# Altium integrated library Vishay Vitramon Ceramic Dipped Capacitor.IntLib: 3117 symbols (part 26 of 35)
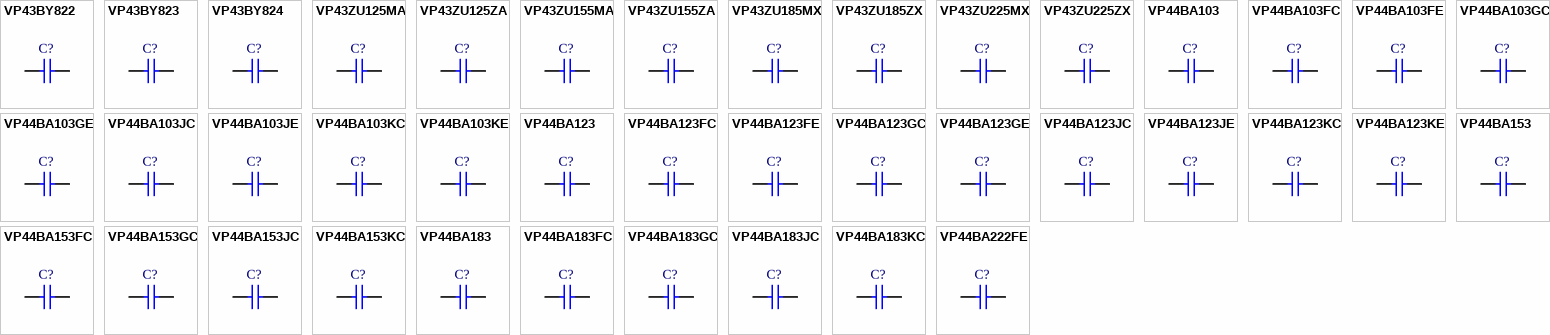
[diagram p102: symbols VP43BY822 to VP44BA222FE]

## VP44BA183GC
designator C?
Dipped Radial Multilayer Ceramic Capacitor COG (NPO): 18nF, 200V; Published: 17-Dec-2003; DatasheetDocument: 7-Jan-2002; PackageDocument: 7-Jan-2002; PackageReference: VP44-5.0; Publisher: Altium Limited; ComponentLink1Description: Manufacturer Link; ComponentLink1URL: http://www.vishay.com/; Value: 18nF
footprint VP44-5.0 (Capacitor, Ceramic, Thru-Hole, Dipped Radial; Body 7.6 x 5 mm (WxT) Pin Spacing 5.08 mm (typ))
simulation model CAP (Capacitor)
signal-integrity model Cap
pins: 1, 2

## VP44BA183JC
designator C?
Dipped Radial Multilayer Ceramic Capacitor COG (NPO): 18nF, 200V; Published: 17-Dec-2003; DatasheetDocument: 7-Jan-2002; PackageDocument: 7-Jan-2002; PackageReference: VP44-5.0; Publisher: Altium Limited; ComponentLink1Description: Manufacturer Link; ComponentLink1URL: http://www.vishay.com/; Value: 18nF
footprint VP44-5.0 (Capacitor, Ceramic, Thru-Hole, Dipped Radial; Body 7.6 x 5 mm (WxT) Pin Spacing 5.08 mm (typ))
simulation model CAP (Capacitor)
signal-integrity model Cap
pins: 1, 2

## VP44BA183KC
designator C?
Dipped Radial Multilayer Ceramic Capacitor COG (NPO): 18nF, 200V; Published: 17-Dec-2003; DatasheetDocument: 7-Jan-2002; PackageDocument: 7-Jan-2002; PackageReference: VP44-5.0; Publisher: Altium Limited; ComponentLink1Description: Manufacturer Link; ComponentLink1URL: http://www.vishay.com/; Value: 18nF
footprint VP44-5.0 (Capacitor, Ceramic, Thru-Hole, Dipped Radial; Body 7.6 x 5 mm (WxT) Pin Spacing 5.08 mm (typ))
simulation model CAP (Capacitor)
signal-integrity model Cap
pins: 1, 2

## VP44BA222FE
designator C?
Dipped Radial Multilayer Ceramic Capacitor COG (NPO): 2200pF, 500V; Value: 2.2nF; Published: 17-Dec-2003; DatasheetDocument: 7-Jan-2002; PackageDocument: 7-Jan-2002; PackageReference: VP44-3.2; Publisher: Altium Limited; ComponentLink1Description: Manufacturer Link; ComponentLink1URL: http://www.vishay.com/
footprint VP44-3.2 (Capacitor, Ceramic, Thru-Hole, Dipped Radial; Body 7.6 x 3.2 mm (WxT) Pin Spacing 5.08 mm (typ))
simulation model CAP (Capacitor)
signal-integrity model Cap
pins: 1, 2

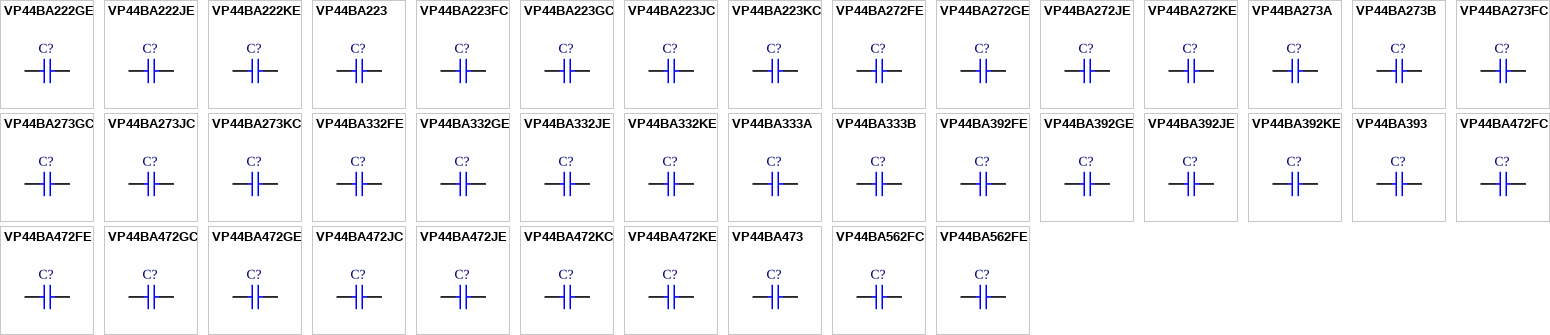
[diagram p56: symbols VP44BA222GE to VP44BA562FE]

## VP44BA222GE
designator C?
Dipped Radial Multilayer Ceramic Capacitor COG (NPO): 2200pF, 500V; Value: 2.2nF; Published: 17-Dec-2003; DatasheetDocument: 7-Jan-2002; PackageDocument: 7-Jan-2002; PackageReference: VP44-3.2; Publisher: Altium Limited; ComponentLink1Description: Manufacturer Link; ComponentLink1URL: http://www.vishay.com/
footprint VP44-3.2 (Capacitor, Ceramic, Thru-Hole, Dipped Radial; Body 7.6 x 3.2 mm (WxT) Pin Spacing 5.08 mm (typ))
simulation model CAP (Capacitor)
signal-integrity model Cap
pins: 1, 2

## VP44BA222JE
designator C?
Dipped Radial Multilayer Ceramic Capacitor COG (NPO): 2200pF, 500V; Value: 2.2nF; Published: 17-Dec-2003; DatasheetDocument: 7-Jan-2002; PackageDocument: 7-Jan-2002; PackageReference: VP44-3.2; Publisher: Altium Limited; ComponentLink1Description: Manufacturer Link; ComponentLink1URL: http://www.vishay.com/
footprint VP44-3.2 (Capacitor, Ceramic, Thru-Hole, Dipped Radial; Body 7.6 x 3.2 mm (WxT) Pin Spacing 5.08 mm (typ))
simulation model CAP (Capacitor)
signal-integrity model Cap
pins: 1, 2

## VP44BA222KE
designator C?
Dipped Radial Multilayer Ceramic Capacitor COG (NPO): 2200pF, 500V; Value: 2.2nF; Published: 17-Dec-2003; DatasheetDocument: 7-Jan-2002; PackageDocument: 7-Jan-2002; PackageReference: VP44-3.2; Publisher: Altium Limited; ComponentLink1Description: Manufacturer Link; ComponentLink1URL: http://www.vishay.com/
footprint VP44-3.2 (Capacitor, Ceramic, Thru-Hole, Dipped Radial; Body 7.6 x 3.2 mm (WxT) Pin Spacing 5.08 mm (typ))
simulation model CAP (Capacitor)
signal-integrity model Cap
pins: 1, 2

## VP44BA223
designator C?
Dipped Radial Multilayer Ceramic Capacitor COG (NPO): 22nF; Note: See Datasheet for other packages & tolerances; Published: 17-Dec-2003; DatasheetDocument: 2-Jan-2002; PackageDocument: 8-Feb-2002; PackageReference: VP44-2.5; Publisher: Altium Limited; ComponentLink1Description: Manufacturer Link; ComponentLink1URL: http://www.vishay.com/; Value: 22nF
footprint VP44-2.5 (Capacitor, Ceramic, Thru-Hole, Dipped Radial; Body 7.6 x 2.5 mm (WxT) Pin Spacing 5.08 mm (typ))
simulation model CAP (Capacitor)
signal-integrity model Cap
pins: 1, 2

## VP44BA223FC
designator C?
Dipped Radial Multilayer Ceramic Capacitor COG (NPO): 22nF, 200V; Published: 17-Dec-2003; DatasheetDocument: 7-Jan-2002; PackageDocument: 7-Jan-2002; PackageReference: VP44-5.0; Publisher: Altium Limited; ComponentLink1Description: Manufacturer Link; ComponentLink1URL: http://www.vishay.com/; Value: 22nF
footprint VP44-5.0 (Capacitor, Ceramic, Thru-Hole, Dipped Radial; Body 7.6 x 5 mm (WxT) Pin Spacing 5.08 mm (typ))
simulation model CAP (Capacitor)
signal-integrity model Cap
pins: 1, 2

## VP44BA223GC
designator C?
Dipped Radial Multilayer Ceramic Capacitor COG (NPO): 22nF, 200V; Published: 17-Dec-2003; DatasheetDocument: 7-Jan-2002; PackageDocument: 7-Jan-2002; PackageReference: VP44-5.0; Publisher: Altium Limited; ComponentLink1Description: Manufacturer Link; ComponentLink1URL: http://www.vishay.com/; Value: 22nF
footprint VP44-5.0 (Capacitor, Ceramic, Thru-Hole, Dipped Radial; Body 7.6 x 5 mm (WxT) Pin Spacing 5.08 mm (typ))
simulation model CAP (Capacitor)
signal-integrity model Cap
pins: 1, 2

## VP44BA223JC
designator C?
Dipped Radial Multilayer Ceramic Capacitor COG (NPO): 22nF, 200V; Published: 17-Dec-2003; DatasheetDocument: 7-Jan-2002; PackageDocument: 7-Jan-2002; PackageReference: VP44-5.0; Publisher: Altium Limited; ComponentLink1Description: Manufacturer Link; ComponentLink1URL: http://www.vishay.com/; Value: 22nF
footprint VP44-5.0 (Capacitor, Ceramic, Thru-Hole, Dipped Radial; Body 7.6 x 5 mm (WxT) Pin Spacing 5.08 mm (typ))
simulation model CAP (Capacitor)
signal-integrity model Cap
pins: 1, 2

## VP44BA223KC
designator C?
Dipped Radial Multilayer Ceramic Capacitor COG (NPO): 22nF, 200V; Published: 17-Dec-2003; DatasheetDocument: 7-Jan-2002; PackageDocument: 7-Jan-2002; PackageReference: VP44-5.0; Publisher: Altium Limited; ComponentLink1Description: Manufacturer Link; ComponentLink1URL: http://www.vishay.com/; Value: 22nF
footprint VP44-5.0 (Capacitor, Ceramic, Thru-Hole, Dipped Radial; Body 7.6 x 5 mm (WxT) Pin Spacing 5.08 mm (typ))
simulation model CAP (Capacitor)
signal-integrity model Cap
pins: 1, 2

## VP44BA272FE
designator C?
Dipped Radial Multilayer Ceramic Capacitor COG (NPO): 2700pF, 500V; Value: 2.7nF; Published: 17-Dec-2003; DatasheetDocument: 7-Jan-2002; PackageDocument: 7-Jan-2002; PackageReference: VP44-3.2; Publisher: Altium Limited; ComponentLink1Description: Manufacturer Link; ComponentLink1URL: http://www.vishay.com/
footprint VP44-3.2 (Capacitor, Ceramic, Thru-Hole, Dipped Radial; Body 7.6 x 3.2 mm (WxT) Pin Spacing 5.08 mm (typ))
simulation model CAP (Capacitor)
signal-integrity model Cap
pins: 1, 2

## VP44BA272GE
designator C?
Dipped Radial Multilayer Ceramic Capacitor COG (NPO): 2700pF, 500V; Value: 2.7nF; Published: 17-Dec-2003; DatasheetDocument: 7-Jan-2002; PackageDocument: 7-Jan-2002; PackageReference: VP44-3.2; Publisher: Altium Limited; ComponentLink1Description: Manufacturer Link; ComponentLink1URL: http://www.vishay.com/
footprint VP44-3.2 (Capacitor, Ceramic, Thru-Hole, Dipped Radial; Body 7.6 x 3.2 mm (WxT) Pin Spacing 5.08 mm (typ))
simulation model CAP (Capacitor)
signal-integrity model Cap
pins: 1, 2

## VP44BA272JE
designator C?
Dipped Radial Multilayer Ceramic Capacitor COG (NPO): 2700pF, 500V; Value: 2.7nF; Published: 17-Dec-2003; DatasheetDocument: 7-Jan-2002; PackageDocument: 7-Jan-2002; PackageReference: VP44-3.2; Publisher: Altium Limited; ComponentLink1Description: Manufacturer Link; ComponentLink1URL: http://www.vishay.com/
footprint VP44-3.2 (Capacitor, Ceramic, Thru-Hole, Dipped Radial; Body 7.6 x 3.2 mm (WxT) Pin Spacing 5.08 mm (typ))
simulation model CAP (Capacitor)
signal-integrity model Cap
pins: 1, 2

## VP44BA272KE
designator C?
Dipped Radial Multilayer Ceramic Capacitor COG (NPO): 2700pF, 500V; Value: 2.7nF; Published: 17-Dec-2003; DatasheetDocument: 7-Jan-2002; PackageDocument: 7-Jan-2002; PackageReference: VP44-3.2; Publisher: Altium Limited; ComponentLink1Description: Manufacturer Link; ComponentLink1URL: http://www.vishay.com/
footprint VP44-3.2 (Capacitor, Ceramic, Thru-Hole, Dipped Radial; Body 7.6 x 3.2 mm (WxT) Pin Spacing 5.08 mm (typ))
simulation model CAP (Capacitor)
signal-integrity model Cap
pins: 1, 2

## VP44BA273A
designator C?
Dipped Radial Multilayer Ceramic Capacitor COG (NPO): 27nF, 50/63V; Note: See Datasheet for other packages & tolerances; Published: 17-Dec-2003; DatasheetDocument: 2-Jan-2002; PackageDocument: 8-Feb-2002; PackageReference: VP44-2.5; Publisher: Altium Limited; ComponentLink1Description: Manufacturer Link; ComponentLink1URL: http://www.vishay.com/; Value: 27nF
footprint VP44-2.5 (Capacitor, Ceramic, Thru-Hole, Dipped Radial; Body 7.6 x 2.5 mm (WxT) Pin Spacing 5.08 mm (typ))
simulation model CAP (Capacitor)
signal-integrity model Cap
pins: 1, 2

## VP44BA273B
designator C?
Dipped Radial Multilayer Ceramic Capacitor COG (NPO): 27nF, 100V; Note: See Datasheet for other packages & tolerances; Published: 17-Dec-2003; DatasheetDocument: 2-Jan-2002; PackageDocument: 8-Feb-2002; PackageReference: VP44-5.0; Publisher: Altium Limited; ComponentLink1Description: Manufacturer Link; ComponentLink1URL: http://www.vishay.com/; Value: 27nF
footprint VP44-5.0 (Capacitor, Ceramic, Thru-Hole, Dipped Radial; Body 7.6 x 5 mm (WxT) Pin Spacing 5.08 mm (typ))
simulation model CAP (Capacitor)
signal-integrity model Cap
pins: 1, 2

## VP44BA273FC
designator C?
Dipped Radial Multilayer Ceramic Capacitor COG (NPO): 27nF, 200V; Published: 17-Dec-2003; DatasheetDocument: 7-Jan-2002; PackageDocument: 7-Jan-2002; PackageReference: VP44-5.0; Publisher: Altium Limited; ComponentLink1Description: Manufacturer Link; ComponentLink1URL: http://www.vishay.com/; Value: 27nF
footprint VP44-5.0 (Capacitor, Ceramic, Thru-Hole, Dipped Radial; Body 7.6 x 5 mm (WxT) Pin Spacing 5.08 mm (typ))
simulation model CAP (Capacitor)
signal-integrity model Cap
pins: 1, 2

## VP44BA273GC
designator C?
Dipped Radial Multilayer Ceramic Capacitor COG (NPO): 27nF, 200V; Published: 17-Dec-2003; DatasheetDocument: 7-Jan-2002; PackageDocument: 7-Jan-2002; PackageReference: VP44-5.0; Publisher: Altium Limited; ComponentLink1Description: Manufacturer Link; ComponentLink1URL: http://www.vishay.com/; Value: 27nF
footprint VP44-5.0 (Capacitor, Ceramic, Thru-Hole, Dipped Radial; Body 7.6 x 5 mm (WxT) Pin Spacing 5.08 mm (typ))
simulation model CAP (Capacitor)
signal-integrity model Cap
pins: 1, 2

## VP44BA273JC
designator C?
Dipped Radial Multilayer Ceramic Capacitor COG (NPO): 27nF, 200V; Published: 17-Dec-2003; DatasheetDocument: 7-Jan-2002; PackageDocument: 7-Jan-2002; PackageReference: VP44-5.0; Publisher: Altium Limited; ComponentLink1Description: Manufacturer Link; ComponentLink1URL: http://www.vishay.com/; Value: 27nF
footprint VP44-5.0 (Capacitor, Ceramic, Thru-Hole, Dipped Radial; Body 7.6 x 5 mm (WxT) Pin Spacing 5.08 mm (typ))
simulation model CAP (Capacitor)
signal-integrity model Cap
pins: 1, 2

## VP44BA273KC
designator C?
Dipped Radial Multilayer Ceramic Capacitor COG (NPO): 27nF, 200V; Published: 17-Dec-2003; DatasheetDocument: 7-Jan-2002; PackageDocument: 7-Jan-2002; PackageReference: VP44-5.0; Publisher: Altium Limited; ComponentLink1Description: Manufacturer Link; ComponentLink1URL: http://www.vishay.com/; Value: 27nF
footprint VP44-5.0 (Capacitor, Ceramic, Thru-Hole, Dipped Radial; Body 7.6 x 5 mm (WxT) Pin Spacing 5.08 mm (typ))
simulation model CAP (Capacitor)
signal-integrity model Cap
pins: 1, 2

## VP44BA332FE
designator C?
Dipped Radial Multilayer Ceramic Capacitor COG (NPO): 3300pF, 500V; Value: 3.3nF; Published: 17-Dec-2003; DatasheetDocument: 7-Jan-2002; PackageDocument: 7-Jan-2002; PackageReference: VP44-3.2; Publisher: Altium Limited; ComponentLink1Description: Manufacturer Link; ComponentLink1URL: http://www.vishay.com/
footprint VP44-3.2 (Capacitor, Ceramic, Thru-Hole, Dipped Radial; Body 7.6 x 3.2 mm (WxT) Pin Spacing 5.08 mm (typ))
simulation model CAP (Capacitor)
signal-integrity model Cap
pins: 1, 2

## VP44BA332GE
designator C?
Dipped Radial Multilayer Ceramic Capacitor COG (NPO): 3300pF, 500V; Value: 3.3nF; Published: 17-Dec-2003; DatasheetDocument: 7-Jan-2002; PackageDocument: 7-Jan-2002; PackageReference: VP44-3.2; Publisher: Altium Limited; ComponentLink1Description: Manufacturer Link; ComponentLink1URL: http://www.vishay.com/
footprint VP44-3.2 (Capacitor, Ceramic, Thru-Hole, Dipped Radial; Body 7.6 x 3.2 mm (WxT) Pin Spacing 5.08 mm (typ))
simulation model CAP (Capacitor)
signal-integrity model Cap
pins: 1, 2

## VP44BA332JE
designator C?
Dipped Radial Multilayer Ceramic Capacitor COG (NPO): 3300pF, 500V; Value: 3.3nF; Published: 17-Dec-2003; DatasheetDocument: 7-Jan-2002; PackageDocument: 7-Jan-2002; PackageReference: VP44-3.2; Publisher: Altium Limited; ComponentLink1Description: Manufacturer Link; ComponentLink1URL: http://www.vishay.com/
footprint VP44-3.2 (Capacitor, Ceramic, Thru-Hole, Dipped Radial; Body 7.6 x 3.2 mm (WxT) Pin Spacing 5.08 mm (typ))
simulation model CAP (Capacitor)
signal-integrity model Cap
pins: 1, 2

## VP44BA332KE
designator C?
Dipped Radial Multilayer Ceramic Capacitor COG (NPO): 3300pF, 500V; Value: 3.3nF; Published: 17-Dec-2003; DatasheetDocument: 7-Jan-2002; PackageDocument: 7-Jan-2002; PackageReference: VP44-3.2; Publisher: Altium Limited; ComponentLink1Description: Manufacturer Link; ComponentLink1URL: http://www.vishay.com/
footprint VP44-3.2 (Capacitor, Ceramic, Thru-Hole, Dipped Radial; Body 7.6 x 3.2 mm (WxT) Pin Spacing 5.08 mm (typ))
simulation model CAP (Capacitor)
signal-integrity model Cap
pins: 1, 2

## VP44BA333A
designator C?
Dipped Radial Multilayer Ceramic Capacitor COG (NPO): 33nF, 50/63V; Note: See Datasheet for other packages & tolerances; Published: 17-Dec-2003; DatasheetDocument: 2-Jan-2002; PackageDocument: 8-Feb-2002; PackageReference: VP44-2.5; Publisher: Altium Limited; ComponentLink1Description: Manufacturer Link; ComponentLink1URL: http://www.vishay.com/; Value: 33nF
footprint VP44-2.5 (Capacitor, Ceramic, Thru-Hole, Dipped Radial; Body 7.6 x 2.5 mm (WxT) Pin Spacing 5.08 mm (typ))
simulation model CAP (Capacitor)
signal-integrity model Cap
pins: 1, 2

## VP44BA333B
designator C?
Dipped Radial Multilayer Ceramic Capacitor COG (NPO): 33nF, 100V; Note: See Datasheet for other packages & tolerances; Published: 17-Dec-2003; DatasheetDocument: 2-Jan-2002; PackageDocument: 8-Feb-2002; PackageReference: VP44-5.0; Publisher: Altium Limited; ComponentLink1Description: Manufacturer Link; ComponentLink1URL: http://www.vishay.com/; Value: 33nF
footprint VP44-5.0 (Capacitor, Ceramic, Thru-Hole, Dipped Radial; Body 7.6 x 5 mm (WxT) Pin Spacing 5.08 mm (typ))
simulation model CAP (Capacitor)
signal-integrity model Cap
pins: 1, 2

## VP44BA392FE
designator C?
Dipped Radial Multilayer Ceramic Capacitor COG (NPO): 3900pF, 500V; Value: 3.9nF; Published: 17-Dec-2003; DatasheetDocument: 7-Jan-2002; PackageDocument: 7-Jan-2002; PackageReference: VP44-3.2; Publisher: Altium Limited; ComponentLink1Description: Manufacturer Link; ComponentLink1URL: http://www.vishay.com/
footprint VP44-3.2 (Capacitor, Ceramic, Thru-Hole, Dipped Radial; Body 7.6 x 3.2 mm (WxT) Pin Spacing 5.08 mm (typ))
simulation model CAP (Capacitor)
signal-integrity model Cap
pins: 1, 2

## VP44BA392GE
designator C?
Dipped Radial Multilayer Ceramic Capacitor COG (NPO): 3900pF, 500V; Value: 3.9nF; Published: 17-Dec-2003; DatasheetDocument: 7-Jan-2002; PackageDocument: 7-Jan-2002; PackageReference: VP44-3.2; Publisher: Altium Limited; ComponentLink1Description: Manufacturer Link; ComponentLink1URL: http://www.vishay.com/
footprint VP44-3.2 (Capacitor, Ceramic, Thru-Hole, Dipped Radial; Body 7.6 x 3.2 mm (WxT) Pin Spacing 5.08 mm (typ))
simulation model CAP (Capacitor)
signal-integrity model Cap
pins: 1, 2

## VP44BA392JE
designator C?
Dipped Radial Multilayer Ceramic Capacitor COG (NPO): 3900pF, 500V; Value: 3.9nF; Published: 17-Dec-2003; DatasheetDocument: 7-Jan-2002; PackageDocument: 7-Jan-2002; PackageReference: VP44-3.2; Publisher: Altium Limited; ComponentLink1Description: Manufacturer Link; ComponentLink1URL: http://www.vishay.com/
footprint VP44-3.2 (Capacitor, Ceramic, Thru-Hole, Dipped Radial; Body 7.6 x 3.2 mm (WxT) Pin Spacing 5.08 mm (typ))
simulation model CAP (Capacitor)
signal-integrity model Cap
pins: 1, 2

## VP44BA392KE
designator C?
Dipped Radial Multilayer Ceramic Capacitor COG (NPO): 3900pF, 500V; Value: 3.9nF; Published: 17-Dec-2003; DatasheetDocument: 7-Jan-2002; PackageDocument: 7-Jan-2002; PackageReference: VP44-3.2; Publisher: Altium Limited; ComponentLink1Description: Manufacturer Link; ComponentLink1URL: http://www.vishay.com/
footprint VP44-3.2 (Capacitor, Ceramic, Thru-Hole, Dipped Radial; Body 7.6 x 3.2 mm (WxT) Pin Spacing 5.08 mm (typ))
simulation model CAP (Capacitor)
signal-integrity model Cap
pins: 1, 2

## VP44BA393
designator C?
Dipped Radial Multilayer Ceramic Capacitor COG (NPO): 39nF; Note: See Datasheet for other packages & tolerances; Published: 17-Dec-2003; DatasheetDocument: 2-Jan-2002; PackageDocument: 8-Feb-2002; PackageReference: VP44-5.0; Publisher: Altium Limited; ComponentLink1Description: Manufacturer Link; ComponentLink1URL: http://www.vishay.com/; Value: 39nF
footprint VP44-5.0 (Capacitor, Ceramic, Thru-Hole, Dipped Radial; Body 7.6 x 5 mm (WxT) Pin Spacing 5.08 mm (typ))
simulation model CAP (Capacitor)
signal-integrity model Cap
pins: 1, 2

## VP44BA472FC
designator C?
Dipped Radial Multilayer Ceramic Capacitor COG (NPO): 4700pF, 200V; Value: 4.7nF; Published: 17-Dec-2003; DatasheetDocument: 7-Jan-2002; PackageDocument: 7-Jan-2002; PackageReference: VP44-3.2; Publisher: Altium Limited; ComponentLink1Description: Manufacturer Link; ComponentLink1URL: http://www.vishay.com/
footprint VP44-3.2 (Capacitor, Ceramic, Thru-Hole, Dipped Radial; Body 7.6 x 3.2 mm (WxT) Pin Spacing 5.08 mm (typ))
simulation model CAP (Capacitor)
signal-integrity model Cap
pins: 1, 2

## VP44BA472FE
designator C?
Dipped Radial Multilayer Ceramic Capacitor COG (NPO): 4700pF, 500V; Value: 4.7nF; Published: 17-Dec-2003; DatasheetDocument: 7-Jan-2002; PackageDocument: 7-Jan-2002; PackageReference: VP44-3.2; Publisher: Altium Limited; ComponentLink1Description: Manufacturer Link; ComponentLink1URL: http://www.vishay.com/
footprint VP44-3.2 (Capacitor, Ceramic, Thru-Hole, Dipped Radial; Body 7.6 x 3.2 mm (WxT) Pin Spacing 5.08 mm (typ))
simulation model CAP (Capacitor)
signal-integrity model Cap
pins: 1, 2

## VP44BA472GC
designator C?
Dipped Radial Multilayer Ceramic Capacitor COG (NPO): 4700pF, 200V; Value: 4.7nF; Published: 17-Dec-2003; DatasheetDocument: 7-Jan-2002; PackageDocument: 7-Jan-2002; PackageReference: VP44-3.2; Publisher: Altium Limited; ComponentLink1Description: Manufacturer Link; ComponentLink1URL: http://www.vishay.com/
footprint VP44-3.2 (Capacitor, Ceramic, Thru-Hole, Dipped Radial; Body 7.6 x 3.2 mm (WxT) Pin Spacing 5.08 mm (typ))
simulation model CAP (Capacitor)
signal-integrity model Cap
pins: 1, 2

## VP44BA472GE
designator C?
Dipped Radial Multilayer Ceramic Capacitor COG (NPO): 4700pF, 500V; Value: 4.7nF; Published: 17-Dec-2003; DatasheetDocument: 7-Jan-2002; PackageDocument: 7-Jan-2002; PackageReference: VP44-3.2; Publisher: Altium Limited; ComponentLink1Description: Manufacturer Link; ComponentLink1URL: http://www.vishay.com/
footprint VP44-3.2 (Capacitor, Ceramic, Thru-Hole, Dipped Radial; Body 7.6 x 3.2 mm (WxT) Pin Spacing 5.08 mm (typ))
simulation model CAP (Capacitor)
signal-integrity model Cap
pins: 1, 2

## VP44BA472JC
designator C?
Dipped Radial Multilayer Ceramic Capacitor COG (NPO): 4700pF, 200V; Value: 4.7nF; Published: 17-Dec-2003; DatasheetDocument: 7-Jan-2002; PackageDocument: 7-Jan-2002; PackageReference: VP44-3.2; Publisher: Altium Limited; ComponentLink1Description: Manufacturer Link; ComponentLink1URL: http://www.vishay.com/
footprint VP44-3.2 (Capacitor, Ceramic, Thru-Hole, Dipped Radial; Body 7.6 x 3.2 mm (WxT) Pin Spacing 5.08 mm (typ))
simulation model CAP (Capacitor)
signal-integrity model Cap
pins: 1, 2

## VP44BA472JE
designator C?
Dipped Radial Multilayer Ceramic Capacitor COG (NPO): 4700pF, 500V; Value: 4.7nF; Published: 17-Dec-2003; DatasheetDocument: 7-Jan-2002; PackageDocument: 7-Jan-2002; PackageReference: VP44-3.2; Publisher: Altium Limited; ComponentLink1Description: Manufacturer Link; ComponentLink1URL: http://www.vishay.com/
footprint VP44-3.2 (Capacitor, Ceramic, Thru-Hole, Dipped Radial; Body 7.6 x 3.2 mm (WxT) Pin Spacing 5.08 mm (typ))
simulation model CAP (Capacitor)
signal-integrity model Cap
pins: 1, 2

## VP44BA472KC
designator C?
Dipped Radial Multilayer Ceramic Capacitor COG (NPO): 4700pF, 200V; Value: 4.7nF; Published: 17-Dec-2003; DatasheetDocument: 7-Jan-2002; PackageDocument: 7-Jan-2002; PackageReference: VP44-3.2; Publisher: Altium Limited; ComponentLink1Description: Manufacturer Link; ComponentLink1URL: http://www.vishay.com/
footprint VP44-3.2 (Capacitor, Ceramic, Thru-Hole, Dipped Radial; Body 7.6 x 3.2 mm (WxT) Pin Spacing 5.08 mm (typ))
simulation model CAP (Capacitor)
signal-integrity model Cap
pins: 1, 2

## VP44BA472KE
designator C?
Dipped Radial Multilayer Ceramic Capacitor COG (NPO): 4700pF, 500V; Value: 4.7nF; Published: 17-Dec-2003; DatasheetDocument: 7-Jan-2002; PackageDocument: 7-Jan-2002; PackageReference: VP44-3.2; Publisher: Altium Limited; ComponentLink1Description: Manufacturer Link; ComponentLink1URL: http://www.vishay.com/
footprint VP44-3.2 (Capacitor, Ceramic, Thru-Hole, Dipped Radial; Body 7.6 x 3.2 mm (WxT) Pin Spacing 5.08 mm (typ))
simulation model CAP (Capacitor)
signal-integrity model Cap
pins: 1, 2

## VP44BA473
designator C?
Dipped Radial Multilayer Ceramic Capacitor COG (NPO): 47nF; Note: See Datasheet for other packages & tolerances; Published: 17-Dec-2003; DatasheetDocument: 2-Jan-2002; PackageDocument: 8-Feb-2002; PackageReference: VP44-5.0; Publisher: Altium Limited; ComponentLink1Description: Manufacturer Link; ComponentLink1URL: http://www.vishay.com/; Value: 47nF
footprint VP44-5.0 (Capacitor, Ceramic, Thru-Hole, Dipped Radial; Body 7.6 x 5 mm (WxT) Pin Spacing 5.08 mm (typ))
simulation model CAP (Capacitor)
signal-integrity model Cap
pins: 1, 2

## VP44BA562FC
designator C?
Dipped Radial Multilayer Ceramic Capacitor COG (NPO): 5600pF, 200V; Value: 5.6nF; Published: 17-Dec-2003; DatasheetDocument: 7-Jan-2002; PackageDocument: 7-Jan-2002; PackageReference: VP44-3.2; Publisher: Altium Limited; ComponentLink1Description: Manufacturer Link; ComponentLink1URL: http://www.vishay.com/
footprint VP44-3.2 (Capacitor, Ceramic, Thru-Hole, Dipped Radial; Body 7.6 x 3.2 mm (WxT) Pin Spacing 5.08 mm (typ))
simulation model CAP (Capacitor)
signal-integrity model Cap
pins: 1, 2

## VP44BA562FE
designator C?
Dipped Radial Multilayer Ceramic Capacitor COG (NPO): 5600pF, 500V; Value: 5.6nF; Published: 17-Dec-2003; DatasheetDocument: 7-Jan-2002; PackageDocument: 7-Jan-2002; PackageReference: VP44-3.2; Publisher: Altium Limited; ComponentLink1Description: Manufacturer Link; ComponentLink1URL: http://www.vishay.com/
footprint VP44-3.2 (Capacitor, Ceramic, Thru-Hole, Dipped Radial; Body 7.6 x 3.2 mm (WxT) Pin Spacing 5.08 mm (typ))
simulation model CAP (Capacitor)
signal-integrity model Cap
pins: 1, 2

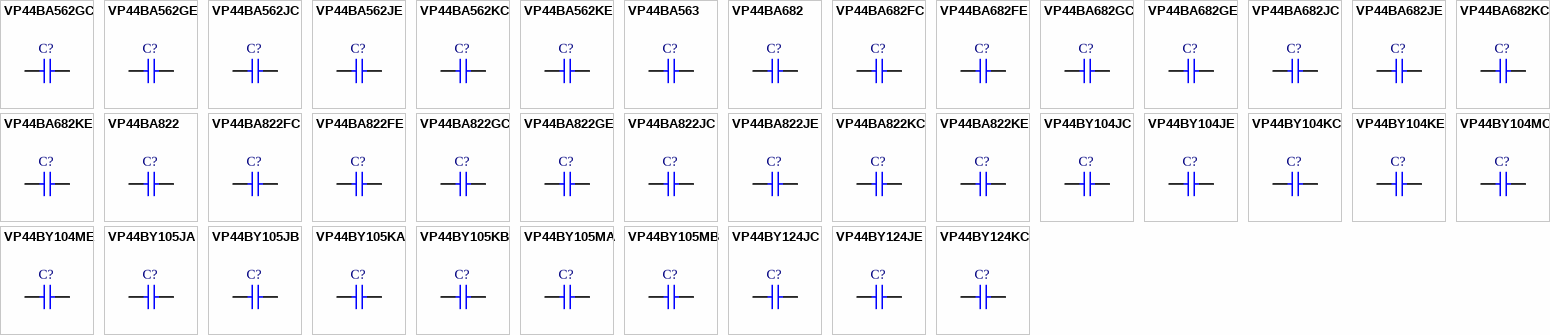
[diagram p57: symbols VP44BA562GC to VP44BY124KC]

## VP44BA562GC
designator C?
Dipped Radial Multilayer Ceramic Capacitor COG (NPO): 5600pF, 200V; Value: 5.6nF; Published: 17-Dec-2003; DatasheetDocument: 7-Jan-2002; PackageDocument: 7-Jan-2002; PackageReference: VP44-3.2; Publisher: Altium Limited; ComponentLink1Description: Manufacturer Link; ComponentLink1URL: http://www.vishay.com/
footprint VP44-3.2 (Capacitor, Ceramic, Thru-Hole, Dipped Radial; Body 7.6 x 3.2 mm (WxT) Pin Spacing 5.08 mm (typ))
simulation model CAP (Capacitor)
signal-integrity model Cap
pins: 1, 2

## VP44BA562GE
designator C?
Dipped Radial Multilayer Ceramic Capacitor COG (NPO): 5600pF, 500V; Value: 5.6nF; Published: 17-Dec-2003; DatasheetDocument: 7-Jan-2002; PackageDocument: 7-Jan-2002; PackageReference: VP44-3.2; Publisher: Altium Limited; ComponentLink1Description: Manufacturer Link; ComponentLink1URL: http://www.vishay.com/
footprint VP44-3.2 (Capacitor, Ceramic, Thru-Hole, Dipped Radial; Body 7.6 x 3.2 mm (WxT) Pin Spacing 5.08 mm (typ))
simulation model CAP (Capacitor)
signal-integrity model Cap
pins: 1, 2

## VP44BA562JC
designator C?
Dipped Radial Multilayer Ceramic Capacitor COG (NPO): 5600pF, 200V; Value: 5.6nF; Published: 17-Dec-2003; DatasheetDocument: 7-Jan-2002; PackageDocument: 7-Jan-2002; PackageReference: VP44-3.2; Publisher: Altium Limited; ComponentLink1Description: Manufacturer Link; ComponentLink1URL: http://www.vishay.com/
footprint VP44-3.2 (Capacitor, Ceramic, Thru-Hole, Dipped Radial; Body 7.6 x 3.2 mm (WxT) Pin Spacing 5.08 mm (typ))
simulation model CAP (Capacitor)
signal-integrity model Cap
pins: 1, 2

## VP44BA562JE
designator C?
Dipped Radial Multilayer Ceramic Capacitor COG (NPO): 5600pF, 500V; Value: 5.6nF; Published: 17-Dec-2003; DatasheetDocument: 7-Jan-2002; PackageDocument: 7-Jan-2002; PackageReference: VP44-3.2; Publisher: Altium Limited; ComponentLink1Description: Manufacturer Link; ComponentLink1URL: http://www.vishay.com/
footprint VP44-3.2 (Capacitor, Ceramic, Thru-Hole, Dipped Radial; Body 7.6 x 3.2 mm (WxT) Pin Spacing 5.08 mm (typ))
simulation model CAP (Capacitor)
signal-integrity model Cap
pins: 1, 2

## VP44BA562KC
designator C?
Dipped Radial Multilayer Ceramic Capacitor COG (NPO): 5600pF, 200V; Value: 5.6nF; Published: 17-Dec-2003; DatasheetDocument: 7-Jan-2002; PackageDocument: 7-Jan-2002; PackageReference: VP44-3.2; Publisher: Altium Limited; ComponentLink1Description: Manufacturer Link; ComponentLink1URL: http://www.vishay.com/
footprint VP44-3.2 (Capacitor, Ceramic, Thru-Hole, Dipped Radial; Body 7.6 x 3.2 mm (WxT) Pin Spacing 5.08 mm (typ))
simulation model CAP (Capacitor)
signal-integrity model Cap
pins: 1, 2

## VP44BA562KE
designator C?
Dipped Radial Multilayer Ceramic Capacitor COG (NPO): 5600pF, 500V; Value: 5.6nF; Published: 17-Dec-2003; DatasheetDocument: 7-Jan-2002; PackageDocument: 7-Jan-2002; PackageReference: VP44-3.2; Publisher: Altium Limited; ComponentLink1Description: Manufacturer Link; ComponentLink1URL: http://www.vishay.com/
footprint VP44-3.2 (Capacitor, Ceramic, Thru-Hole, Dipped Radial; Body 7.6 x 3.2 mm (WxT) Pin Spacing 5.08 mm (typ))
simulation model CAP (Capacitor)
signal-integrity model Cap
pins: 1, 2

## VP44BA563
designator C?
Dipped Radial Multilayer Ceramic Capacitor COG (NPO): 56nF; Note: See Datasheet for other packages & tolerances; Published: 17-Dec-2003; DatasheetDocument: 2-Jan-2002; PackageDocument: 8-Feb-2002; PackageReference: VP44-5.0; Publisher: Altium Limited; ComponentLink1Description: Manufacturer Link; ComponentLink1URL: http://www.vishay.com/; Value: 56nF
footprint VP44-5.0 (Capacitor, Ceramic, Thru-Hole, Dipped Radial; Body 7.6 x 5 mm (WxT) Pin Spacing 5.08 mm (typ))
simulation model CAP (Capacitor)
signal-integrity model Cap
pins: 1, 2

## VP44BA682
designator C?
Dipped Radial Multilayer Ceramic Capacitor COG (NPO): 6800pF; Note: See Datasheet for other packages & tolerances; Value: 6.8nF; Published: 17-Dec-2003; DatasheetDocument: 2-Jan-2002; PackageDocument: 8-Feb-2002; PackageReference: VP44-2.5; Publisher: Altium Limited; ComponentLink1Description: Manufacturer Link; ComponentLink1URL: http://www.vishay.com/
footprint VP44-2.5 (Capacitor, Ceramic, Thru-Hole, Dipped Radial; Body 7.6 x 2.5 mm (WxT) Pin Spacing 5.08 mm (typ))
simulation model CAP (Capacitor)
signal-integrity model Cap
pins: 1, 2

## VP44BA682FC
designator C?
Dipped Radial Multilayer Ceramic Capacitor COG (NPO): 6800pF, 200V; Value: 6.8nF; Published: 17-Dec-2003; DatasheetDocument: 7-Jan-2002; PackageDocument: 7-Jan-2002; PackageReference: VP44-3.2; Publisher: Altium Limited; ComponentLink1Description: Manufacturer Link; ComponentLink1URL: http://www.vishay.com/
footprint VP44-3.2 (Capacitor, Ceramic, Thru-Hole, Dipped Radial; Body 7.6 x 3.2 mm (WxT) Pin Spacing 5.08 mm (typ))
simulation model CAP (Capacitor)
signal-integrity model Cap
pins: 1, 2

## VP44BA682FE
designator C?
Dipped Radial Multilayer Ceramic Capacitor COG (NPO): 6800pF, 500V; Value: 6.8nF; Published: 17-Dec-2003; DatasheetDocument: 7-Jan-2002; PackageDocument: 7-Jan-2002; PackageReference: VP44-5.0; Publisher: Altium Limited; ComponentLink1Description: Manufacturer Link; ComponentLink1URL: http://www.vishay.com/
footprint VP44-5.0 (Capacitor, Ceramic, Thru-Hole, Dipped Radial; Body 7.6 x 5 mm (WxT) Pin Spacing 5.08 mm (typ))
simulation model CAP (Capacitor)
signal-integrity model Cap
pins: 1, 2

## VP44BA682GC
designator C?
Dipped Radial Multilayer Ceramic Capacitor COG (NPO): 6800pF, 200V; Value: 6.8nF; Published: 17-Dec-2003; DatasheetDocument: 7-Jan-2002; PackageDocument: 7-Jan-2002; PackageReference: VP44-3.2; Publisher: Altium Limited; ComponentLink1Description: Manufacturer Link; ComponentLink1URL: http://www.vishay.com/
footprint VP44-3.2 (Capacitor, Ceramic, Thru-Hole, Dipped Radial; Body 7.6 x 3.2 mm (WxT) Pin Spacing 5.08 mm (typ))
simulation model CAP (Capacitor)
signal-integrity model Cap
pins: 1, 2

## VP44BA682GE
designator C?
Dipped Radial Multilayer Ceramic Capacitor COG (NPO): 6800pF, 500V; Value: 6.8nF; Published: 17-Dec-2003; DatasheetDocument: 7-Jan-2002; PackageDocument: 7-Jan-2002; PackageReference: VP44-5.0; Publisher: Altium Limited; ComponentLink1Description: Manufacturer Link; ComponentLink1URL: http://www.vishay.com/
footprint VP44-5.0 (Capacitor, Ceramic, Thru-Hole, Dipped Radial; Body 7.6 x 5 mm (WxT) Pin Spacing 5.08 mm (typ))
simulation model CAP (Capacitor)
signal-integrity model Cap
pins: 1, 2

## VP44BA682JC
designator C?
Dipped Radial Multilayer Ceramic Capacitor COG (NPO): 6800pF, 200V; Value: 6.8nF; Published: 17-Dec-2003; DatasheetDocument: 7-Jan-2002; PackageDocument: 7-Jan-2002; PackageReference: VP44-3.2; Publisher: Altium Limited; ComponentLink1Description: Manufacturer Link; ComponentLink1URL: http://www.vishay.com/
footprint VP44-3.2 (Capacitor, Ceramic, Thru-Hole, Dipped Radial; Body 7.6 x 3.2 mm (WxT) Pin Spacing 5.08 mm (typ))
simulation model CAP (Capacitor)
signal-integrity model Cap
pins: 1, 2

## VP44BA682JE
designator C?
Dipped Radial Multilayer Ceramic Capacitor COG (NPO): 6800pF, 500V; Value: 6.8nF; Published: 17-Dec-2003; DatasheetDocument: 7-Jan-2002; PackageDocument: 7-Jan-2002; PackageReference: VP44-5.0; Publisher: Altium Limited; ComponentLink1Description: Manufacturer Link; ComponentLink1URL: http://www.vishay.com/
footprint VP44-5.0 (Capacitor, Ceramic, Thru-Hole, Dipped Radial; Body 7.6 x 5 mm (WxT) Pin Spacing 5.08 mm (typ))
simulation model CAP (Capacitor)
signal-integrity model Cap
pins: 1, 2

## VP44BA682KC
designator C?
Dipped Radial Multilayer Ceramic Capacitor COG (NPO): 6800pF, 200V; Value: 6.8nF; Published: 17-Dec-2003; DatasheetDocument: 7-Jan-2002; PackageDocument: 7-Jan-2002; PackageReference: VP44-3.2; Publisher: Altium Limited; ComponentLink1Description: Manufacturer Link; ComponentLink1URL: http://www.vishay.com/
footprint VP44-3.2 (Capacitor, Ceramic, Thru-Hole, Dipped Radial; Body 7.6 x 3.2 mm (WxT) Pin Spacing 5.08 mm (typ))
simulation model CAP (Capacitor)
signal-integrity model Cap
pins: 1, 2

## VP44BA682KE
designator C?
Dipped Radial Multilayer Ceramic Capacitor COG (NPO): 6800pF, 500V; Value: 6.8nF; Published: 17-Dec-2003; DatasheetDocument: 7-Jan-2002; PackageDocument: 7-Jan-2002; PackageReference: VP44-5.0; Publisher: Altium Limited; ComponentLink1Description: Manufacturer Link; ComponentLink1URL: http://www.vishay.com/
footprint VP44-5.0 (Capacitor, Ceramic, Thru-Hole, Dipped Radial; Body 7.6 x 5 mm (WxT) Pin Spacing 5.08 mm (typ))
simulation model CAP (Capacitor)
signal-integrity model Cap
pins: 1, 2

## VP44BA822
designator C?
Dipped Radial Multilayer Ceramic Capacitor COG (NPO): 8200pF; Note: See Datasheet for other packages & tolerances; Value: 8.2nF; Published: 17-Dec-2003; DatasheetDocument: 2-Jan-2002; PackageDocument: 8-Feb-2002; PackageReference: VP44-2.5; Publisher: Altium Limited; ComponentLink1Description: Manufacturer Link; ComponentLink1URL: http://www.vishay.com/
footprint VP44-2.5 (Capacitor, Ceramic, Thru-Hole, Dipped Radial; Body 7.6 x 2.5 mm (WxT) Pin Spacing 5.08 mm (typ))
simulation model CAP (Capacitor)
signal-integrity model Cap
pins: 1, 2

## VP44BA822FC
designator C?
Dipped Radial Multilayer Ceramic Capacitor COG (NPO): 8200pF, 200V; Value: 8.2nF; Published: 17-Dec-2003; DatasheetDocument: 7-Jan-2002; PackageDocument: 7-Jan-2002; PackageReference: VP44-3.2; Publisher: Altium Limited; ComponentLink1Description: Manufacturer Link; ComponentLink1URL: http://www.vishay.com/
footprint VP44-3.2 (Capacitor, Ceramic, Thru-Hole, Dipped Radial; Body 7.6 x 3.2 mm (WxT) Pin Spacing 5.08 mm (typ))
simulation model CAP (Capacitor)
signal-integrity model Cap
pins: 1, 2

## VP44BA822FE
designator C?
Dipped Radial Multilayer Ceramic Capacitor COG (NPO): 8200pF, 500V; Value: 8.2nF; Published: 17-Dec-2003; DatasheetDocument: 7-Jan-2002; PackageDocument: 7-Jan-2002; PackageReference: VP44-5.0; Publisher: Altium Limited; ComponentLink1Description: Manufacturer Link; ComponentLink1URL: http://www.vishay.com/
footprint VP44-5.0 (Capacitor, Ceramic, Thru-Hole, Dipped Radial; Body 7.6 x 5 mm (WxT) Pin Spacing 5.08 mm (typ))
simulation model CAP (Capacitor)
signal-integrity model Cap
pins: 1, 2

## VP44BA822GC
designator C?
Dipped Radial Multilayer Ceramic Capacitor COG (NPO): 8200pF, 200V; Value: 8.2nF; Published: 17-Dec-2003; DatasheetDocument: 7-Jan-2002; PackageDocument: 7-Jan-2002; PackageReference: VP44-3.2; Publisher: Altium Limited; ComponentLink1Description: Manufacturer Link; ComponentLink1URL: http://www.vishay.com/
footprint VP44-3.2 (Capacitor, Ceramic, Thru-Hole, Dipped Radial; Body 7.6 x 3.2 mm (WxT) Pin Spacing 5.08 mm (typ))
simulation model CAP (Capacitor)
signal-integrity model Cap
pins: 1, 2

## VP44BA822GE
designator C?
Dipped Radial Multilayer Ceramic Capacitor COG (NPO): 8200pF, 500V; Value: 8.2nF; Published: 17-Dec-2003; DatasheetDocument: 7-Jan-2002; PackageDocument: 7-Jan-2002; PackageReference: VP44-5.0; Publisher: Altium Limited; ComponentLink1Description: Manufacturer Link; ComponentLink1URL: http://www.vishay.com/
footprint VP44-5.0 (Capacitor, Ceramic, Thru-Hole, Dipped Radial; Body 7.6 x 5 mm (WxT) Pin Spacing 5.08 mm (typ))
simulation model CAP (Capacitor)
signal-integrity model Cap
pins: 1, 2

## VP44BA822JC
designator C?
Dipped Radial Multilayer Ceramic Capacitor COG (NPO): 8200pF, 200V; Value: 8.2nF; Published: 17-Dec-2003; DatasheetDocument: 7-Jan-2002; PackageDocument: 7-Jan-2002; PackageReference: VP44-3.2; Publisher: Altium Limited; ComponentLink1Description: Manufacturer Link; ComponentLink1URL: http://www.vishay.com/
footprint VP44-3.2 (Capacitor, Ceramic, Thru-Hole, Dipped Radial; Body 7.6 x 3.2 mm (WxT) Pin Spacing 5.08 mm (typ))
simulation model CAP (Capacitor)
signal-integrity model Cap
pins: 1, 2

## VP44BA822JE
designator C?
Dipped Radial Multilayer Ceramic Capacitor COG (NPO): 8200pF, 500V; Value: 8.2nF; Published: 17-Dec-2003; DatasheetDocument: 7-Jan-2002; PackageDocument: 7-Jan-2002; PackageReference: VP44-5.0; Publisher: Altium Limited; ComponentLink1Description: Manufacturer Link; ComponentLink1URL: http://www.vishay.com/
footprint VP44-5.0 (Capacitor, Ceramic, Thru-Hole, Dipped Radial; Body 7.6 x 5 mm (WxT) Pin Spacing 5.08 mm (typ))
simulation model CAP (Capacitor)
signal-integrity model Cap
pins: 1, 2

## VP44BA822KC
designator C?
Dipped Radial Multilayer Ceramic Capacitor COG (NPO): 8200pF, 200V; Value: 8.2nF; Published: 17-Dec-2003; DatasheetDocument: 7-Jan-2002; PackageDocument: 7-Jan-2002; PackageReference: VP44-3.2; Publisher: Altium Limited; ComponentLink1Description: Manufacturer Link; ComponentLink1URL: http://www.vishay.com/
footprint VP44-3.2 (Capacitor, Ceramic, Thru-Hole, Dipped Radial; Body 7.6 x 3.2 mm (WxT) Pin Spacing 5.08 mm (typ))
simulation model CAP (Capacitor)
signal-integrity model Cap
pins: 1, 2

## VP44BA822KE
designator C?
Dipped Radial Multilayer Ceramic Capacitor COG (NPO): 8200pF, 500V; Value: 8.2nF; Published: 17-Dec-2003; DatasheetDocument: 7-Jan-2002; PackageDocument: 7-Jan-2002; PackageReference: VP44-5.0; Publisher: Altium Limited; ComponentLink1Description: Manufacturer Link; ComponentLink1URL: http://www.vishay.com/
footprint VP44-5.0 (Capacitor, Ceramic, Thru-Hole, Dipped Radial; Body 7.6 x 5 mm (WxT) Pin Spacing 5.08 mm (typ))
simulation model CAP (Capacitor)
signal-integrity model Cap
pins: 1, 2

## VP44BY104JC
designator C?
Dipped Radial Multilayer Ceramic Capacitor X7R: 100nF, 200V; Published: 17-Dec-2003; DatasheetDocument: 2-Jan-2002; PackageDocument: 2-Jan-2002; PackageReference: VP44-3.2; Publisher: Altium Limited; ComponentLink1Description: Manufacturer Link; ComponentLink1URL: http://www.vishay.com/; Value: 100nF
footprint VP44-3.2 (Capacitor, Ceramic, Thru-Hole, Dipped Radial; Body 7.6 x 3.2 mm (WxT) Pin Spacing 5.08 mm (typ))
simulation model CAP (Capacitor)
signal-integrity model Cap
pins: 1, 2

## VP44BY104JE
designator C?
Dipped Radial Multilayer Ceramic Capacitor X7R: 100nF, 500V; Published: 17-Dec-2003; DatasheetDocument: 2-Jan-2002; PackageDocument: 2-Jan-2002; PackageReference: VP44-3.2; Publisher: Altium Limited; ComponentLink1Description: Manufacturer Link; ComponentLink1URL: http://www.vishay.com/; Value: 100nF
footprint VP44-3.2 (Capacitor, Ceramic, Thru-Hole, Dipped Radial; Body 7.6 x 3.2 mm (WxT) Pin Spacing 5.08 mm (typ))
simulation model CAP (Capacitor)
signal-integrity model Cap
pins: 1, 2

## VP44BY104KC
designator C?
Dipped Radial Multilayer Ceramic Capacitor X7R: 100nF, 200V; Published: 17-Dec-2003; DatasheetDocument: 2-Jan-2002; PackageDocument: 2-Jan-2002; PackageReference: VP44-3.2; Publisher: Altium Limited; ComponentLink1Description: Manufacturer Link; ComponentLink1URL: http://www.vishay.com/; Value: 100nF
footprint VP44-3.2 (Capacitor, Ceramic, Thru-Hole, Dipped Radial; Body 7.6 x 3.2 mm (WxT) Pin Spacing 5.08 mm (typ))
simulation model CAP (Capacitor)
signal-integrity model Cap
pins: 1, 2

## VP44BY104KE
designator C?
Dipped Radial Multilayer Ceramic Capacitor X7R: 100nF, 500V; Published: 17-Dec-2003; DatasheetDocument: 2-Jan-2002; PackageDocument: 2-Jan-2002; PackageReference: VP44-3.2; Publisher: Altium Limited; ComponentLink1Description: Manufacturer Link; ComponentLink1URL: http://www.vishay.com/; Value: 100nF
footprint VP44-3.2 (Capacitor, Ceramic, Thru-Hole, Dipped Radial; Body 7.6 x 3.2 mm (WxT) Pin Spacing 5.08 mm (typ))
simulation model CAP (Capacitor)
signal-integrity model Cap
pins: 1, 2

## VP44BY104MC
designator C?
Dipped Radial Multilayer Ceramic Capacitor X7R: 100nF, 200V; Published: 17-Dec-2003; DatasheetDocument: 2-Jan-2002; PackageDocument: 2-Jan-2002; PackageReference: VP44-3.2; Publisher: Altium Limited; ComponentLink1Description: Manufacturer Link; ComponentLink1URL: http://www.vishay.com/; Value: 100nF
footprint VP44-3.2 (Capacitor, Ceramic, Thru-Hole, Dipped Radial; Body 7.6 x 3.2 mm (WxT) Pin Spacing 5.08 mm (typ))
simulation model CAP (Capacitor)
signal-integrity model Cap
pins: 1, 2

## VP44BY104ME
designator C?
Dipped Radial Multilayer Ceramic Capacitor X7R: 100nF, 500V; Published: 17-Dec-2003; DatasheetDocument: 2-Jan-2002; PackageDocument: 2-Jan-2002; PackageReference: VP44-3.2; Publisher: Altium Limited; ComponentLink1Description: Manufacturer Link; ComponentLink1URL: http://www.vishay.com/; Value: 100nF
footprint VP44-3.2 (Capacitor, Ceramic, Thru-Hole, Dipped Radial; Body 7.6 x 3.2 mm (WxT) Pin Spacing 5.08 mm (typ))
simulation model CAP (Capacitor)
signal-integrity model Cap
pins: 1, 2

## VP44BY105JA
designator C?
Dipped Radial Multilayer Ceramic Capacitor X7R: 1uF, 50/63V; Published: 17-Dec-2003; DatasheetDocument: 4-Feb-2002; PackageDocument: 4-Feb-2002; PackageReference: VP44-2.5; Publisher: Altium Limited; ComponentLink1Description: Manufacturer Link; ComponentLink1URL: http://www.vishay.com/; Value: 1uF
footprint VP44-2.5 (Capacitor, Ceramic, Thru-Hole, Dipped Radial; Body 7.6 x 2.5 mm (WxT) Pin Spacing 5.08 mm (typ))
simulation model CAP (Capacitor)
signal-integrity model Cap
pins: 1, 2

## VP44BY105JB
designator C?
Dipped Radial Multilayer Ceramic Capacitor X7R: 1uF, 100V; Published: 17-Dec-2003; DatasheetDocument: 4-Feb-2002; PackageDocument: 4-Feb-2002; PackageReference: VP44-2.5; Publisher: Altium Limited; ComponentLink1Description: Manufacturer Link; ComponentLink1URL: http://www.vishay.com/; Value: 1uF
footprint VP44-2.5 (Capacitor, Ceramic, Thru-Hole, Dipped Radial; Body 7.6 x 2.5 mm (WxT) Pin Spacing 5.08 mm (typ))
simulation model CAP (Capacitor)
signal-integrity model Cap
pins: 1, 2

## VP44BY105KA
designator C?
Dipped Radial Multilayer Ceramic Capacitor X7R: 1uF, 50/63V; Published: 17-Dec-2003; DatasheetDocument: 4-Feb-2002; PackageDocument: 4-Feb-2002; PackageReference: VP44-2.5; Publisher: Altium Limited; ComponentLink1Description: Manufacturer Link; ComponentLink1URL: http://www.vishay.com/; Value: 1uF
footprint VP44-2.5 (Capacitor, Ceramic, Thru-Hole, Dipped Radial; Body 7.6 x 2.5 mm (WxT) Pin Spacing 5.08 mm (typ))
simulation model CAP (Capacitor)
signal-integrity model Cap
pins: 1, 2

## VP44BY105KB
designator C?
Dipped Radial Multilayer Ceramic Capacitor X7R: 1uF, 100V; Published: 17-Dec-2003; DatasheetDocument: 4-Feb-2002; PackageDocument: 4-Feb-2002; PackageReference: VP44-2.5; Publisher: Altium Limited; ComponentLink1Description: Manufacturer Link; ComponentLink1URL: http://www.vishay.com/; Value: 1uF
footprint VP44-2.5 (Capacitor, Ceramic, Thru-Hole, Dipped Radial; Body 7.6 x 2.5 mm (WxT) Pin Spacing 5.08 mm (typ))
simulation model CAP (Capacitor)
signal-integrity model Cap
pins: 1, 2

## VP44BY105MA
designator C?
Dipped Radial Multilayer Ceramic Capacitor X7R: 1uF, 50/63V; Published: 17-Dec-2003; DatasheetDocument: 4-Feb-2002; PackageDocument: 4-Feb-2002; PackageReference: VP44-2.5; Publisher: Altium Limited; ComponentLink1Description: Manufacturer Link; ComponentLink1URL: http://www.vishay.com/; Value: 1uF
footprint VP44-2.5 (Capacitor, Ceramic, Thru-Hole, Dipped Radial; Body 7.6 x 2.5 mm (WxT) Pin Spacing 5.08 mm (typ))
simulation model CAP (Capacitor)
signal-integrity model Cap
pins: 1, 2

## VP44BY105MB
designator C?
Dipped Radial Multilayer Ceramic Capacitor X7R: 1uF, 100V; Published: 17-Dec-2003; DatasheetDocument: 4-Feb-2002; PackageDocument: 4-Feb-2002; PackageReference: VP44-2.5; Publisher: Altium Limited; ComponentLink1Description: Manufacturer Link; ComponentLink1URL: http://www.vishay.com/; Value: 1uF
footprint VP44-2.5 (Capacitor, Ceramic, Thru-Hole, Dipped Radial; Body 7.6 x 2.5 mm (WxT) Pin Spacing 5.08 mm (typ))
simulation model CAP (Capacitor)
signal-integrity model Cap
pins: 1, 2

## VP44BY124JC
designator C?
Dipped Radial Multilayer Ceramic Capacitor X7R: 120nF, 200V; Published: 17-Dec-2003; DatasheetDocument: 2-Jan-2002; PackageDocument: 2-Jan-2002; PackageReference: VP44-3.2; Publisher: Altium Limited; ComponentLink1Description: Manufacturer Link; ComponentLink1URL: http://www.vishay.com/; Value: 120nF
footprint VP44-3.2 (Capacitor, Ceramic, Thru-Hole, Dipped Radial; Body 7.6 x 3.2 mm (WxT) Pin Spacing 5.08 mm (typ))
simulation model CAP (Capacitor)
signal-integrity model Cap
pins: 1, 2

## VP44BY124JE
designator C?
Dipped Radial Multilayer Ceramic Capacitor X7R: 120nF, 500V; Published: 17-Dec-2003; DatasheetDocument: 2-Jan-2002; PackageDocument: 2-Jan-2002; PackageReference: VP44-5.0; Publisher: Altium Limited; ComponentLink1Description: Manufacturer Link; ComponentLink1URL: http://www.vishay.com/; Value: 120nF
footprint VP44-5.0 (Capacitor, Ceramic, Thru-Hole, Dipped Radial; Body 7.6 x 5 mm (WxT) Pin Spacing 5.08 mm (typ))
simulation model CAP (Capacitor)
signal-integrity model Cap
pins: 1, 2

## VP44BY124KC
designator C?
Dipped Radial Multilayer Ceramic Capacitor X7R: 120nF, 200V; Published: 17-Dec-2003; DatasheetDocument: 2-Jan-2002; PackageDocument: 2-Jan-2002; PackageReference: VP44-3.2; Publisher: Altium Limited; ComponentLink1Description: Manufacturer Link; ComponentLink1URL: http://www.vishay.com/; Value: 120nF
footprint VP44-3.2 (Capacitor, Ceramic, Thru-Hole, Dipped Radial; Body 7.6 x 3.2 mm (WxT) Pin Spacing 5.08 mm (typ))
simulation model CAP (Capacitor)
signal-integrity model Cap
pins: 1, 2

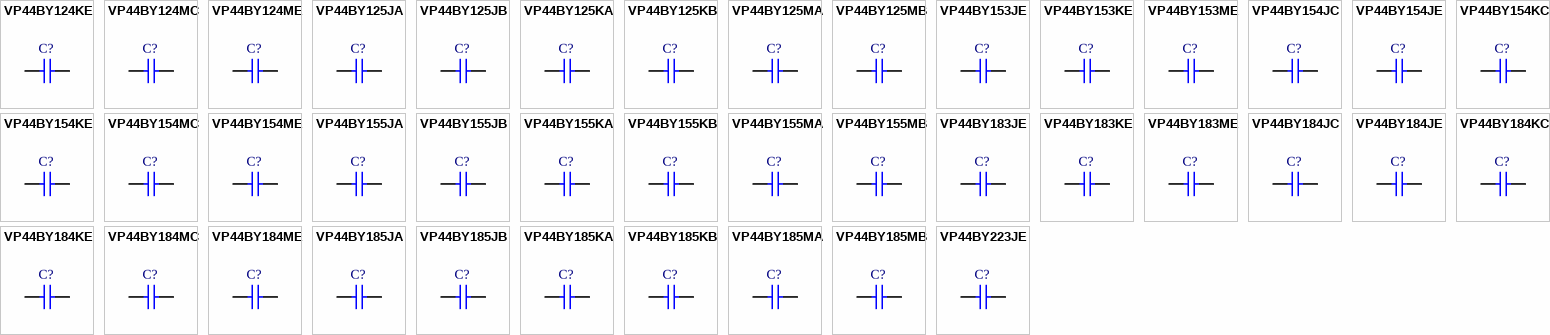
[diagram p58: symbols VP44BY124KE to VP44BY223JE]

## VP44BY124KE
designator C?
Dipped Radial Multilayer Ceramic Capacitor X7R: 120nF, 500V; Published: 17-Dec-2003; DatasheetDocument: 2-Jan-2002; PackageDocument: 2-Jan-2002; PackageReference: VP44-5.0; Publisher: Altium Limited; ComponentLink1Description: Manufacturer Link; ComponentLink1URL: http://www.vishay.com/; Value: 120nF
footprint VP44-5.0 (Capacitor, Ceramic, Thru-Hole, Dipped Radial; Body 7.6 x 5 mm (WxT) Pin Spacing 5.08 mm (typ))
simulation model CAP (Capacitor)
signal-integrity model Cap
pins: 1, 2

## VP44BY124MC
designator C?
Dipped Radial Multilayer Ceramic Capacitor X7R: 120nF, 200V; Published: 17-Dec-2003; DatasheetDocument: 2-Jan-2002; PackageDocument: 2-Jan-2002; PackageReference: VP44-3.2; Publisher: Altium Limited; ComponentLink1Description: Manufacturer Link; ComponentLink1URL: http://www.vishay.com/; Value: 120nF
footprint VP44-3.2 (Capacitor, Ceramic, Thru-Hole, Dipped Radial; Body 7.6 x 3.2 mm (WxT) Pin Spacing 5.08 mm (typ))
simulation model CAP (Capacitor)
signal-integrity model Cap
pins: 1, 2

## VP44BY124ME
designator C?
Dipped Radial Multilayer Ceramic Capacitor X7R: 120nF, 500V; Published: 17-Dec-2003; DatasheetDocument: 2-Jan-2002; PackageDocument: 2-Jan-2002; PackageReference: VP44-5.0; Publisher: Altium Limited; ComponentLink1Description: Manufacturer Link; ComponentLink1URL: http://www.vishay.com/; Value: 120nF
footprint VP44-5.0 (Capacitor, Ceramic, Thru-Hole, Dipped Radial; Body 7.6 x 5 mm (WxT) Pin Spacing 5.08 mm (typ))
simulation model CAP (Capacitor)
signal-integrity model Cap
pins: 1, 2

## VP44BY125JA
designator C?
Dipped Radial Multilayer Ceramic Capacitor X7R: 1.2uF, 50/63V; Published: 17-Dec-2003; DatasheetDocument: 4-Feb-2002; PackageDocument: 4-Feb-2002; PackageReference: VP44-5.0; Publisher: Altium Limited; ComponentLink1Description: Manufacturer Link; ComponentLink1URL: http://www.vishay.com/; Value: 1.2uF
footprint VP44-5.0 (Capacitor, Ceramic, Thru-Hole, Dipped Radial; Body 7.6 x 5 mm (WxT) Pin Spacing 5.08 mm (typ))
simulation model CAP (Capacitor)
signal-integrity model Cap
pins: 1, 2

## VP44BY125JB
designator C?
Dipped Radial Multilayer Ceramic Capacitor X7R: 1.2uF, 100V; Published: 17-Dec-2003; DatasheetDocument: 4-Feb-2002; PackageDocument: 4-Feb-2002; PackageReference: VP44-5.0; Publisher: Altium Limited; ComponentLink1Description: Manufacturer Link; ComponentLink1URL: http://www.vishay.com/; Value: 1.2uF
footprint VP44-5.0 (Capacitor, Ceramic, Thru-Hole, Dipped Radial; Body 7.6 x 5 mm (WxT) Pin Spacing 5.08 mm (typ))
simulation model CAP (Capacitor)
signal-integrity model Cap
pins: 1, 2

## VP44BY125KA
designator C?
Dipped Radial Multilayer Ceramic Capacitor X7R: 1.2uF, 50/63V; Published: 17-Dec-2003; DatasheetDocument: 4-Feb-2002; PackageDocument: 4-Feb-2002; PackageReference: VP44-5.0; Publisher: Altium Limited; ComponentLink1Description: Manufacturer Link; ComponentLink1URL: http://www.vishay.com/; Value: 1.2uF
footprint VP44-5.0 (Capacitor, Ceramic, Thru-Hole, Dipped Radial; Body 7.6 x 5 mm (WxT) Pin Spacing 5.08 mm (typ))
simulation model CAP (Capacitor)
signal-integrity model Cap
pins: 1, 2

## VP44BY125KB
designator C?
Dipped Radial Multilayer Ceramic Capacitor X7R: 1.2uF, 100V; Published: 17-Dec-2003; DatasheetDocument: 4-Feb-2002; PackageDocument: 4-Feb-2002; PackageReference: VP44-5.0; Publisher: Altium Limited; ComponentLink1Description: Manufacturer Link; ComponentLink1URL: http://www.vishay.com/; Value: 1.2uF
footprint VP44-5.0 (Capacitor, Ceramic, Thru-Hole, Dipped Radial; Body 7.6 x 5 mm (WxT) Pin Spacing 5.08 mm (typ))
simulation model CAP (Capacitor)
signal-integrity model Cap
pins: 1, 2

## VP44BY125MA
designator C?
Dipped Radial Multilayer Ceramic Capacitor X7R: 1.2uF, 50/63V; Published: 17-Dec-2003; DatasheetDocument: 4-Feb-2002; PackageDocument: 4-Feb-2002; PackageReference: VP44-5.0; Publisher: Altium Limited; ComponentLink1Description: Manufacturer Link; ComponentLink1URL: http://www.vishay.com/; Value: 1.2uF
footprint VP44-5.0 (Capacitor, Ceramic, Thru-Hole, Dipped Radial; Body 7.6 x 5 mm (WxT) Pin Spacing 5.08 mm (typ))
simulation model CAP (Capacitor)
signal-integrity model Cap
pins: 1, 2

## VP44BY125MB
designator C?
Dipped Radial Multilayer Ceramic Capacitor X7R: 1.2uF, 100V; Published: 17-Dec-2003; DatasheetDocument: 4-Feb-2002; PackageDocument: 4-Feb-2002; PackageReference: VP44-5.0; Publisher: Altium Limited; ComponentLink1Description: Manufacturer Link; ComponentLink1URL: http://www.vishay.com/; Value: 1.2uF
footprint VP44-5.0 (Capacitor, Ceramic, Thru-Hole, Dipped Radial; Body 7.6 x 5 mm (WxT) Pin Spacing 5.08 mm (typ))
simulation model CAP (Capacitor)
signal-integrity model Cap
pins: 1, 2

## VP44BY153JE
designator C?
Dipped Radial Multilayer Ceramic Capacitor X7R: 15nF, 500V; Published: 17-Dec-2003; DatasheetDocument: 2-Jan-2002; PackageDocument: 2-Jan-2002; PackageReference: VP44-3.2; Publisher: Altium Limited; ComponentLink1Description: Manufacturer Link; ComponentLink1URL: http://www.vishay.com/; Value: 15nF
footprint VP44-3.2 (Capacitor, Ceramic, Thru-Hole, Dipped Radial; Body 7.6 x 3.2 mm (WxT) Pin Spacing 5.08 mm (typ))
simulation model CAP (Capacitor)
signal-integrity model Cap
pins: 1, 2